# EAGLE library part FT2232D (library work)
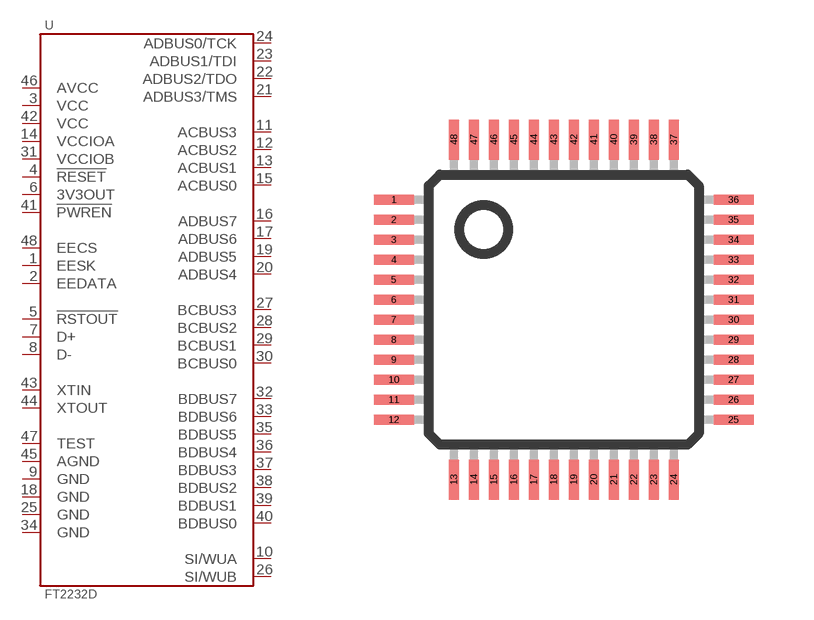
[diagram p93: symbol with the pads of LQFP-48; footprint LQFP-48]

Designator prefix U

## FT2232D  [LQFP-48]
1  EESK
2  EEDATA
3  VCC
4  !RESET
5  !RSTOUT
6  3V3OUT
7  D+
8  D-
9  GND
10  SI/WUA
11  ACBUS3
12  ACBUS2
13  ACBUS1
14  VCCIOA
15  ACBUS0
16  ADBUS7
17  ADBUS6
18  GND
19  ADBUS5
20  ADBUS4
21  ADBUS3/TMS
22  ADBUS2/TDO
23  ADBUS1/TDI
24  ADBUS0/TCK
25  GND
26  SI/WUB
27  BCBUS3
28  BCBUS2
29  BCBUS1
30  BCBUS0
31  VCCIOB
32  BDBUS7
33  BDBUS6
34  GND
35  BDBUS5
36  BDBUS4
37  BDBUS3
38  BDBUS2
39  BDBUS1
40  BDBUS0
41  !PWREN
42  VCC
43  XTIN
44  XTOUT
45  AGND
46  AVCC
47  TEST
48  EECS

## Footprint LQFP-48 (pad centres in mm)
smd 1 x 0.25: 1 -4.25,2.75; 2 -4.25,2.25; 3 -4.25,1.75; 4 -4.25,1.25; 5 -4.25,0.75; 6 -4.25,0.25; 7 -4.25,-0.25; 8 -4.25,-0.75; 9 -4.25,-1.25; 10 -4.25,-1.75; 11 -4.25,-2.25; 12 -4.25,-2.75; 25 4.25,-2.75; 26 4.25,-2.25; 27 4.25,-1.75; 28 4.25,-1.25; 29 4.25,-0.75; 30 4.25,-0.25; 31 4.25,0.25; 32 4.25,0.75; 33 4.25,1.25; 34 4.25,1.75; 35 4.25,2.25; 36 4.25,2.75
smd 0.25 x 1: 13 -2.75,-4.25; 14 -2.25,-4.25; 15 -1.75,-4.25; 16 -1.25,-4.25; 17 -0.75,-4.25; 18 -0.25,-4.25; 19 0.25,-4.25; 20 0.75,-4.25; 21 1.25,-4.25; 22 1.75,-4.25; 23 2.25,-4.25; 24 2.75,-4.25; 37 2.75,4.25; 38 2.25,4.25; 39 1.75,4.25; 40 1.25,4.25; 41 0.75,4.25; 42 0.25,4.25; 43 -0.25,4.25; 44 -0.75,4.25; 45 -1.25,4.25; 46 -1.75,4.25; 47 -2.25,4.25; 48 -2.75,4.25